# Altium schematic symbol library ERJ-6GEYJ153V.SchLib: 1 symbol
Pins are listed as number, name and electrical type; pins without a type are passive.

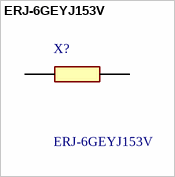
[diagram p0: symbol ERJ-6GEYJ153V]

## ERJ-6GEYJ153V
designator X?
Panasonic ERJ6GE Series Thick Film Surface Mount Fixed Resistor 0805 Case 15k +/-5% 0.125W +/-200ppm/C; Geometry.Height: 0.7mm; Mouser Part Number: 667-ERJ-6GEYJ153V; Mouser Price/Stock: https://www.mouser.co.uk/ProductDetail/Panasonic/ERJ-6GEYJ153V?qs=gybxhQrZOyE8NVeFJR%2FEkg%3D%3D; Manufacturer_Name: Panasonic; Manufacturer_Part_Number: ERJ-6GEYJ153V; Datasheet Link: https://datasheet.datasheetarchive.com/originals/distributors/DKDS40/DSANUWW0010935.pdf
footprint RESC2012X70N
pins: 1, 2